# EAGLE library part TEXAS_CC3200MOD (library airu-board)
The CC3200MOD is a Wi-Fi Module that Consists of the CC3200R1M2RGC Single-Chip Wireless MCU. This Fully Integrated Module Includes all Required Clocks, SPI Flash, and Passives. More information can be found at: http://www.ti.com/product/CC3200MOD/description.
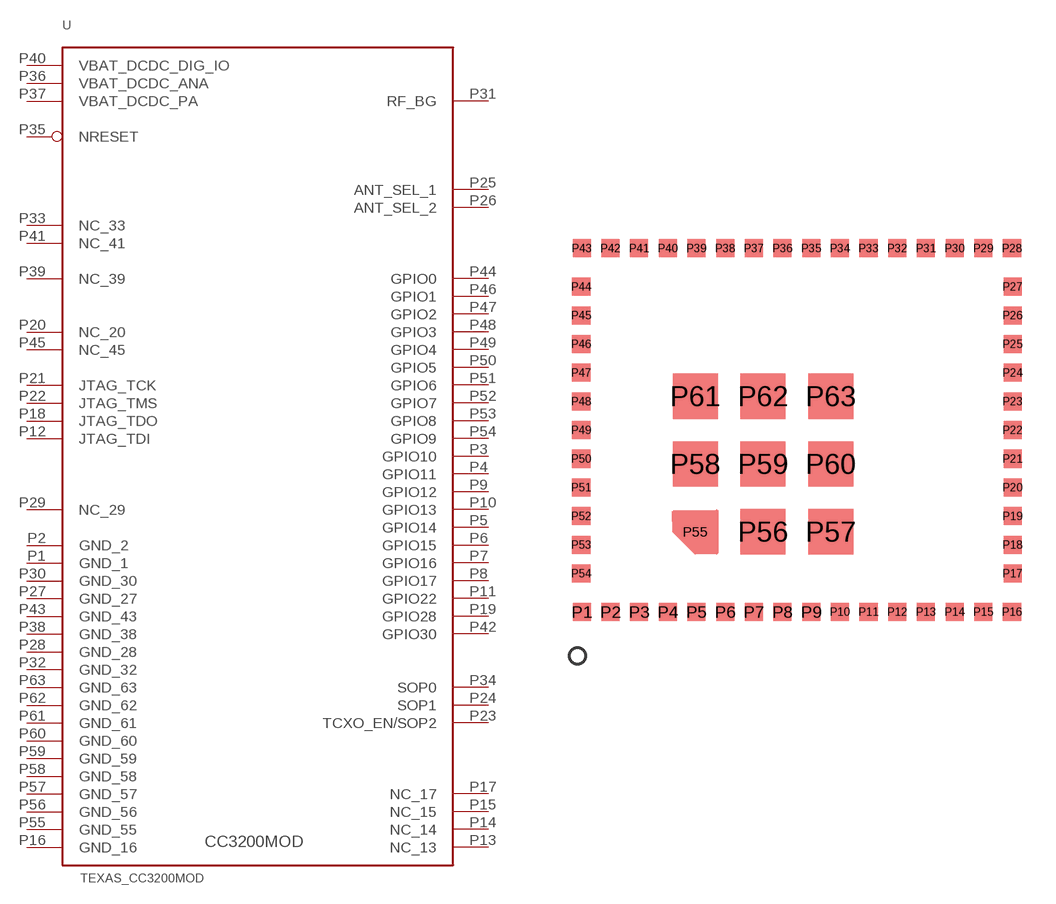
[diagram p8: symbol with the pads of TEXAS_CC3200MOD; footprint TEXAS_CC3200MOD]

Designator prefix -

## TEXAS_CC3200MOD  [TEXAS_CC3200MOD]
P1  GND_1
P2  GND_2
P3  GPIO10
P4  GPIO11
P5  GPIO14
P6  GPIO15
P7  GPIO16
P8  GPIO17
P9  GPIO12
P10  GPIO13
P11  GPIO22
P12  JTAG_TDI
P13  NC_13  nc
P14  NC_14  nc
P15  NC_15  nc
P16  GND_16
P17  NC_17  nc
P18  JTAG_TDO
P19  GPIO28
P20  NC_20  nc
P21  JTAG_TCK
P22  JTAG_TMS
P23  TCXO_EN/SOP2
P24  SOP1
P25  ANT_SEL_1
P26  ANT_SEL_2
P27  GND_27
P28  GND_28
P29  NC_29  nc
P30  GND_30
P31  RF_BG
P32  GND_32
P33  NC_33  nc
P34  SOP0
P35  NRESET  in
P36  VBAT_DCDC_ANA  pwr
P37  VBAT_DCDC_PA  pwr
P38  GND_38
P39  NC_39  nc
P40  VBAT_DCDC_DIG_IO  pwr
P41  NC_41  nc
P42  GPIO30
P43  GND_43
P44  GPIO0
P45  NC_45  nc
P46  GPIO1
P47  GPIO2
P48  GPIO3
P49  GPIO4
P50  GPIO5
P51  GPIO6
P52  GPIO7
P53  GPIO8
P54  GPIO9
P55  GND_55
P56  GND_56
P57  GND_57
P58  GND_58
P59  GND_59
P60  GND_60
P61  GND_61
P62  GND_62
P63  GND_63

## Footprint TEXAS_CC3200MOD (pad centres in mm)
smd 0.8 x 0.8: P1 -12.065,-8.05; P2 -10.795,-8.05; P3 -9.525,-8.05; P4 -8.255,-8.05; P5 -6.985,-8.05; P6 -5.715,-8.05; P7 -4.445,-8.05; P8 -3.175,-8.05; P9 -1.905,-8.05; P10 -0.635,-8.05; P11 0.635,-8.05; P12 1.905,-8.05; P13 3.175,-8.05; P14 4.445,-8.05; P15 5.715,-8.05; P16 6.985,-8.05; P17 7.01,-6.35; P18 7.01,-5.08; P19 7.01,-3.81; P20 7.01,-2.54; P21 7.01,-1.27; P22 7.01,0; P23 7.01,1.27; P24 7.01,2.54; P25 7.01,3.81; P26 7.01,5.08; P27 7.01,6.35; P28 6.985,8.05; P29 5.715,8.05; P30 4.445,8.05; P31 3.175,8.05; P32 1.905,8.05; P33 0.635,8.05; P34 -0.635,8.05; P35 -1.905,8.05; P36 -3.175,8.05; P37 -4.445,8.05; P38 -5.715,8.05; P39 -6.985,8.05; P40 -8.255,8.05; P41 -9.525,8.05; P42 -10.795,8.05; P43 -12.065,8.05; P44 -12.09,6.35; P45 -12.09,5.08; P46 -12.09,3.81; P47 -12.09,2.54; P48 -12.09,1.27; P49 -12.09,0; P50 -12.09,-1.27; P51 -12.09,-2.54; P52 -12.09,-3.81; P53 -12.09,-5.08; P54 -12.09,-6.35
smd 1 x 1: P55 -7.04,-4.5
smd 2 x 2: P56 -4.04,-4.5; P57 -1.04,-4.5; P58 -7.04,-1.5; P59 -4.04,-1.5; P60 -1.04,-1.5; P61 -7.04,1.5; P62 -4.04,1.5; P63 -1.04,1.5